# Altium schematic symbol library sensors.SchLib: 1 symbol
Pins are listed as number, name and electrical type; pins without a type are passive.

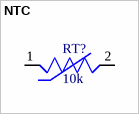
[diagram p0: symbol NTC]

## NTC
designator RT?, comment 10k
NTC; VALUE: 10k
pins: 1, 2